# Altium schematic symbol library WE-PD4.SchLib: 97 symbols (part 2 of 2)
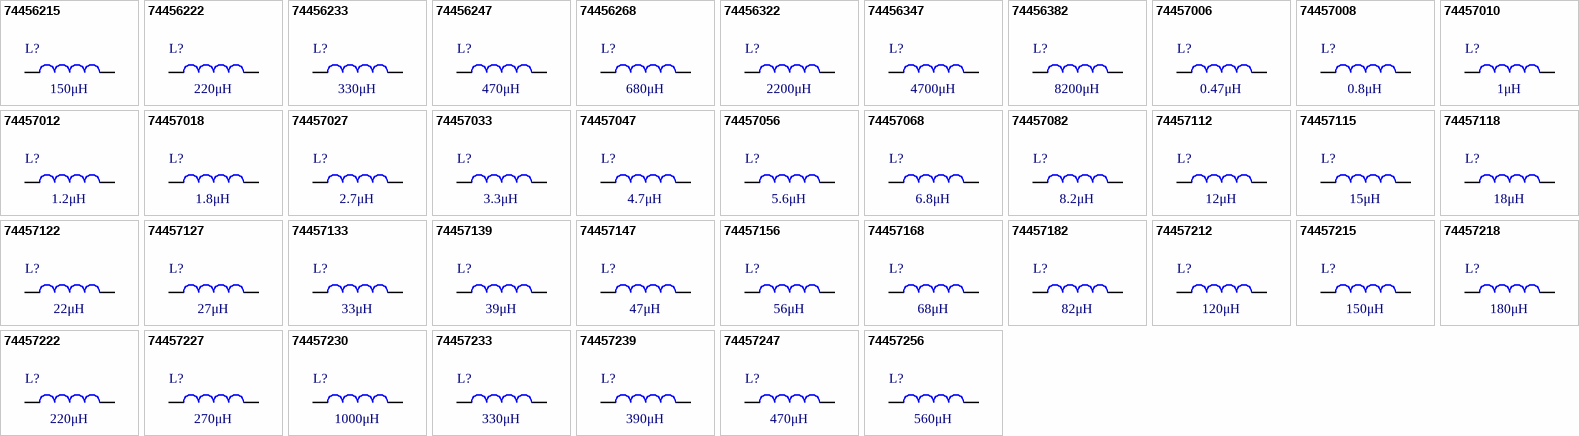
[diagram p3: symbols 74456215 to 74457256]

## 74457115
designator L?, comment 15μH
WE-PD4 Power Inductor, SMT, Type XL, 15μH, 5A, 0.035Ω; Manufacturer Part Number: 74457115; Manufacturer: Wurth Elektronik; Case/Size Code: Type XL; Saturation Current: 9A; Self Resonant Frequency: 15MHz; Category: Power Inductors; Match Code: WE-PD4; ComponentLink1Description: Website Link; ComponentLink1URL: https://www.we-online.com/redexpert/article/74457115?ad; ComponentLink2Description: Datasheet Link; ComponentLink2URL: https://www.we-online.com/redexpert/spec/74457115?ad; Mount: Surface Mount; Min Operating Temperature: -40°C; Max Operating Temperature: 125°C; Packaging: Tape and Reel; Length: 22mm; Width: 15mm; Height: 7mm; DC Resistance Max: 0.035Ω; Inductance: 15μH; Rated Current: 5A
footprint WE-PD4_Type XL
simulation model TypeXL_74457115_15u
pins: 1, 2

## 74457118
designator L?, comment 18μH
WE-PD4 Power Inductor, SMT, Type XL, 18μH, 4.6A, 0.04Ω; Manufacturer Part Number: 74457118; Manufacturer: Wurth Elektronik; Case/Size Code: Type XL; Saturation Current: 8A; Self Resonant Frequency: 14.5MHz; Category: Power Inductors; Match Code: WE-PD4; ComponentLink1Description: Website Link; ComponentLink1URL: https://www.we-online.com/redexpert/article/74457118?ad; ComponentLink2Description: Datasheet Link; ComponentLink2URL: https://www.we-online.com/redexpert/spec/74457118?ad; Mount: Surface Mount; Min Operating Temperature: -40°C; Max Operating Temperature: 125°C; Packaging: Tape and Reel; Length: 22mm; Width: 15mm; Height: 7mm; DC Resistance Max: 0.04Ω; Inductance: 18μH; Rated Current: 4.6A
footprint WE-PD4_Type XL
simulation model TypeXL_74457118_18u
pins: 1, 2

## 74457122
designator L?, comment 22μH
WE-PD4 Power Inductor, SMT, Type XL, 22μH, 4A, 0.047Ω; Manufacturer Part Number: 74457122; Manufacturer: Wurth Elektronik; Case/Size Code: Type XL; Saturation Current: 6.5A; Self Resonant Frequency: 14MHz; Category: Power Inductors; Match Code: WE-PD4; ComponentLink1Description: Website Link; ComponentLink1URL: https://www.we-online.com/redexpert/article/74457122?ad; ComponentLink2Description: Datasheet Link; ComponentLink2URL: https://www.we-online.com/redexpert/spec/74457122?ad; Mount: Surface Mount; Min Operating Temperature: -40°C; Max Operating Temperature: 125°C; Packaging: Tape and Reel; Length: 22mm; Width: 15mm; Height: 7mm; DC Resistance Max: 0.047Ω; Inductance: 22μH; Rated Current: 4A
footprint WE-PD4_Type XL
simulation model TypeXL_74457122_22u
pins: 1, 2

## 74457127
designator L?, comment 27μH
WE-PD4 Power Inductor, SMT, Type XL, 27μH, 3.8A, 0.052Ω; Manufacturer Part Number: 74457127; Manufacturer: Wurth Elektronik; Case/Size Code: Type XL; Saturation Current: 6A; Self Resonant Frequency: 12.5MHz; Category: Power Inductors; Match Code: WE-PD4; ComponentLink1Description: Website Link; ComponentLink1URL: https://www.we-online.com/redexpert/article/74457127?ad; ComponentLink2Description: Datasheet Link; ComponentLink2URL: https://www.we-online.com/redexpert/spec/74457127?ad; Mount: Surface Mount; Min Operating Temperature: -40°C; Max Operating Temperature: 125°C; Packaging: Tape and Reel; Length: 22mm; Width: 15mm; Height: 7mm; DC Resistance Max: 0.052Ω; Inductance: 27μH; Rated Current: 3.8A
footprint WE-PD4_Type XL
simulation model TypeXL_74457127_27u
pins: 1, 2

## 74457133
designator L?, comment 33μH
WE-PD4 Power Inductor, SMT, Type XL, 33μH, 3.4A, 0.07Ω; Manufacturer Part Number: 74457133; Manufacturer: Wurth Elektronik; Case/Size Code: Type XL; Saturation Current: 5.5A; Self Resonant Frequency: 11.5MHz; Category: Power Inductors; Match Code: WE-PD4; ComponentLink1Description: Website Link; ComponentLink1URL: https://www.we-online.com/redexpert/article/74457133?ad; ComponentLink2Description: Datasheet Link; ComponentLink2URL: https://www.we-online.com/redexpert/spec/74457133?ad; Mount: Surface Mount; Min Operating Temperature: -40°C; Max Operating Temperature: 125°C; Packaging: Tape and Reel; Length: 22mm; Width: 15mm; Height: 7mm; DC Resistance Max: 0.07Ω; Inductance: 33μH; Rated Current: 3.4A
footprint WE-PD4_Type XL
simulation model TypeXL_74457133_33u
pins: 1, 2

## 74457139
designator L?, comment 39μH
WE-PD4 Power Inductor, SMT, Type XL, 39μH, 3.2A, 0.078Ω; Manufacturer Part Number: 74457139; Manufacturer: Wurth Elektronik; Case/Size Code: Type XL; Saturation Current: 5.2A; Self Resonant Frequency: 10.5MHz; Category: Power Inductors; Match Code: WE-PD4; ComponentLink1Description: Website Link; ComponentLink1URL: https://www.we-online.com/redexpert/article/74457139?ad; ComponentLink2Description: Datasheet Link; ComponentLink2URL: https://www.we-online.com/redexpert/spec/74457139?ad; Mount: Surface Mount; Min Operating Temperature: -40°C; Max Operating Temperature: 125°C; Packaging: Tape and Reel; Length: 22mm; Width: 15mm; Height: 7mm; DC Resistance Max: 0.078Ω; Inductance: 39μH; Rated Current: 3.2A
footprint WE-PD4_Type XL
simulation model TypeXL_74457139_39u
pins: 1, 2

## 74457147
designator L?, comment 47μH
WE-PD4 Power Inductor, SMT, Type XL, 47μH, 2.8A, 0.109Ω; Manufacturer Part Number: 74457147; Manufacturer: Wurth Elektronik; Case/Size Code: Type XL; Saturation Current: 5A; Self Resonant Frequency: 9.2MHz; Category: Power Inductors; Match Code: WE-PD4; ComponentLink1Description: Website Link; ComponentLink1URL: https://www.we-online.com/redexpert/article/74457147?ad; ComponentLink2Description: Datasheet Link; ComponentLink2URL: https://www.we-online.com/redexpert/spec/74457147?ad; Mount: Surface Mount; Min Operating Temperature: -40°C; Max Operating Temperature: 125°C; Packaging: Tape and Reel; Length: 22mm; Width: 15mm; Height: 7mm; DC Resistance Max: 0.109Ω; Inductance: 47μH; Rated Current: 2.8A
footprint WE-PD4_Type XL
simulation model TypeXL_74457147_47u
pins: 1, 2

## 74457156
designator L?, comment 56μH
WE-PD4 Power Inductor, SMT, Type XL, 56μH, 2.6A, 0.116Ω; Manufacturer Part Number: 74457156; Manufacturer: Wurth Elektronik; Case/Size Code: Type XL; Saturation Current: 4.5A; Self Resonant Frequency: 8.8MHz; Category: Power Inductors; Match Code: WE-PD4; ComponentLink1Description: Website Link; ComponentLink1URL: https://www.we-online.com/redexpert/article/74457156?ad; ComponentLink2Description: Datasheet Link; ComponentLink2URL: https://www.we-online.com/redexpert/spec/74457156?ad; Mount: Surface Mount; Min Operating Temperature: -40°C; Max Operating Temperature: 125°C; Packaging: Tape and Reel; Length: 22mm; Width: 15mm; Height: 7mm; DC Resistance Max: 0.116Ω; Inductance: 56μH; Rated Current: 2.6A
footprint WE-PD4_Type XL
simulation model TypeXL_74457156_56u
pins: 1, 2

## 74457168
designator L?, comment 68μH
WE-PD4 Power Inductor, SMT, Type XL, 68μH, 2.4A, 0.134Ω; Manufacturer Part Number: 74457168; Manufacturer: Wurth Elektronik; Case/Size Code: Type XL; Saturation Current: 4A; Self Resonant Frequency: 7.6MHz; Category: Power Inductors; Match Code: WE-PD4; ComponentLink1Description: Website Link; ComponentLink1URL: https://www.we-online.com/redexpert/article/74457168?ad; ComponentLink2Description: Datasheet Link; ComponentLink2URL: https://www.we-online.com/redexpert/spec/74457168?ad; Mount: Surface Mount; Min Operating Temperature: -40°C; Max Operating Temperature: 125°C; Packaging: Tape and Reel; Length: 22mm; Width: 15mm; Height: 7mm; DC Resistance Max: 0.134Ω; Inductance: 68μH; Rated Current: 2.4A
footprint WE-PD4_Type XL
simulation model TypeXL_74457168_68u
pins: 1, 2

## 74457182
designator L?, comment 82μH
WE-PD4 Power Inductor, SMT, Type XL, 82μH, 2.2A, 0.173Ω; Manufacturer Part Number: 74457182; Manufacturer: Wurth Elektronik; Case/Size Code: Type XL; Saturation Current: 3.5A; Self Resonant Frequency: 7.2MHz; Category: Power Inductors; Match Code: WE-PD4; ComponentLink1Description: Website Link; ComponentLink1URL: https://www.we-online.com/redexpert/article/74457182?ad; ComponentLink2Description: Datasheet Link; ComponentLink2URL: https://www.we-online.com/redexpert/spec/74457182?ad; Mount: Surface Mount; Min Operating Temperature: -40°C; Max Operating Temperature: 125°C; Packaging: Tape and Reel; Length: 22mm; Width: 15mm; Height: 7mm; DC Resistance Max: 0.173Ω; Inductance: 82μH; Rated Current: 2.2A
footprint WE-PD4_Type XL
simulation model TypeXL_74457182_82u
pins: 1, 2

## 74457212
designator L?, comment 120μH
WE-PD4 Power Inductor, SMT, Type XL, 120μH, 1.6A, 0.235Ω; Manufacturer Part Number: 74457212; Manufacturer: Wurth Elektronik; Case/Size Code: Type XL; Saturation Current: 3A; Self Resonant Frequency: 4.3MHz; Category: Power Inductors; Match Code: WE-PD4; ComponentLink1Description: Website Link; ComponentLink1URL: https://www.we-online.com/redexpert/article/74457212?ad; ComponentLink2Description: Datasheet Link; ComponentLink2URL: https://www.we-online.com/redexpert/spec/74457212?ad; Mount: Surface Mount; Min Operating Temperature: -40°C; Max Operating Temperature: 125°C; Packaging: Tape and Reel; Length: 22mm; Width: 15mm; Height: 7mm; DC Resistance Max: 0.235Ω; Inductance: 120μH; Rated Current: 1.6A
footprint WE-PD4_Type XL
simulation model TypeXL_74457212_120u
pins: 1, 2

## 74457215
designator L?, comment 150μH
WE-PD4 Power Inductor, SMT, Type XL, 150μH, 1.5A, 0.268Ω; Manufacturer Part Number: 74457215; Manufacturer: Wurth Elektronik; Case/Size Code: Type XL; Saturation Current: 2.6A; Self Resonant Frequency: 4.1MHz; Category: Power Inductors; Match Code: WE-PD4; ComponentLink1Description: Website Link; ComponentLink1URL: https://www.we-online.com/redexpert/article/74457215?ad; ComponentLink2Description: Datasheet Link; ComponentLink2URL: https://www.we-online.com/redexpert/spec/74457215?ad; Mount: Surface Mount; Min Operating Temperature: -40°C; Max Operating Temperature: 125°C; Packaging: Tape and Reel; Length: 22mm; Width: 15mm; Height: 7mm; DC Resistance Max: 0.268Ω; Inductance: 150μH; Rated Current: 1.5A
footprint WE-PD4_Type XL
simulation model TypeXL_74457215_150u
pins: 1, 2

## 74457218
designator L?, comment 180μH
WE-PD4 Power Inductor, SMT, Type XL, 180μH, 1.3A, 0.307Ω; Manufacturer Part Number: 74457218; Manufacturer: Wurth Elektronik; Case/Size Code: Type XL; Saturation Current: 2.5A; Self Resonant Frequency: 3.5MHz; Category: Power Inductors; Match Code: WE-PD4; ComponentLink1Description: Website Link; ComponentLink1URL: https://www.we-online.com/redexpert/article/74457218?ad; ComponentLink2Description: Datasheet Link; ComponentLink2URL: https://www.we-online.com/redexpert/spec/74457218?ad; Mount: Surface Mount; Min Operating Temperature: -40°C; Max Operating Temperature: 125°C; Packaging: Tape and Reel; Length: 22mm; Width: 15mm; Height: 7mm; DC Resistance Max: 0.307Ω; Inductance: 180μH; Rated Current: 1.3A
footprint WE-PD4_Type XL
simulation model TypeXL_74457218_180u
pins: 1, 2

## 74457222
designator L?, comment 220μH
WE-PD4 Power Inductor, SMT, Type XL, 220μH, 1.2A, 0.388Ω; Manufacturer Part Number: 74457222; Manufacturer: Wurth Elektronik; Case/Size Code: Type XL; Saturation Current: 2.4A; Self Resonant Frequency: 3.4MHz; Category: Power Inductors; Match Code: WE-PD4; ComponentLink1Description: Website Link; ComponentLink1URL: https://www.we-online.com/redexpert/article/74457222?ad; ComponentLink2Description: Datasheet Link; ComponentLink2URL: https://www.we-online.com/redexpert/spec/74457222?ad; Mount: Surface Mount; Min Operating Temperature: -40°C; Max Operating Temperature: 125°C; Packaging: Tape and Reel; Length: 22mm; Width: 15mm; Height: 7mm; DC Resistance Max: 0.388Ω; Inductance: 220μH; Rated Current: 1.2A
footprint WE-PD4_Type XL
simulation model TypeXL_74457222_220u
pins: 1, 2

## 74457227
designator L?, comment 270μH
WE-PD4 Power Inductor, SMT, Type XL, 270μH, 1.1A, 0.479Ω; Manufacturer Part Number: 74457227; Manufacturer: Wurth Elektronik; Case/Size Code: Type XL; Saturation Current: 2.2A; Self Resonant Frequency: 2.8MHz; Category: Power Inductors; Match Code: WE-PD4; ComponentLink1Description: Website Link; ComponentLink1URL: https://www.we-online.com/redexpert/article/74457227?ad; ComponentLink2Description: Datasheet Link; ComponentLink2URL: https://www.we-online.com/redexpert/spec/74457227?ad; Mount: Surface Mount; Min Operating Temperature: -40°C; Max Operating Temperature: 125°C; Packaging: Tape and Reel; Length: 22mm; Width: 15mm; Height: 7mm; DC Resistance Max: 0.479Ω; Inductance: 270μH; Rated Current: 1.1A
footprint WE-PD4_Type XL
simulation model TypeXL_74457227_270u
pins: 1, 2

## 74457230
designator L?, comment 1000μH
WE-PD4 Power Inductor, SMT, Type XL, 1000μH, 0.56A, 1.8Ω; Manufacturer Part Number: 74457230; Manufacturer: Wurth Elektronik; Case/Size Code: Type XL; Saturation Current: 1A; Self Resonant Frequency: 1.4MHz; Category: Power Inductors; Match Code: WE-PD4; ComponentLink1Description: Website Link; ComponentLink1URL: https://www.we-online.com/redexpert/article/74457230?ad; ComponentLink2Description: Datasheet Link; ComponentLink2URL: https://www.we-online.com/redexpert/spec/74457230?ad; Mount: Surface Mount; Min Operating Temperature: -40°C; Max Operating Temperature: 125°C; Packaging: Tape and Reel; Length: 22mm; Width: 15mm; Height: 7mm; DC Resistance Max: 1.8Ω; Inductance: 1000μH; Rated Current: 0.56A
footprint WE-PD4_Type XL
simulation model TypeXL_74457230_1000u
pins: 1, 2

## 74457233
designator L?, comment 330μH
WE-PD4 Power Inductor, SMT, Type XL, 330μH, 1A, 0.564Ω; Manufacturer Part Number: 74457233; Manufacturer: Wurth Elektronik; Case/Size Code: Type XL; Saturation Current: 1.9A; Self Resonant Frequency: 2.6MHz; Category: Power Inductors; Match Code: WE-PD4; ComponentLink1Description: Website Link; ComponentLink1URL: https://www.we-online.com/redexpert/article/74457233?ad; ComponentLink2Description: Datasheet Link; ComponentLink2URL: https://www.we-online.com/redexpert/spec/74457233?ad; Mount: Surface Mount; Min Operating Temperature: -40°C; Max Operating Temperature: 125°C; Packaging: Tape and Reel; Length: 22mm; Width: 15mm; Height: 7mm; DC Resistance Max: 0.564Ω; Inductance: 330μH; Rated Current: 1A
footprint WE-PD4_Type XL
simulation model TypeXL_74457233_330u
pins: 1, 2

## 74457239
designator L?, comment 390μH
WE-PD4 Power Inductor, SMT, Type XL, 390μH, 0.9A, 0.67Ω; Manufacturer Part Number: 74457239; Manufacturer: Wurth Elektronik; Case/Size Code: Type XL; Saturation Current: 1.7A; Self Resonant Frequency: 2.4MHz; Category: Power Inductors; Match Code: WE-PD4; ComponentLink1Description: Website Link; ComponentLink1URL: https://www.we-online.com/redexpert/article/74457239?ad; ComponentLink2Description: Datasheet Link; ComponentLink2URL: https://www.we-online.com/redexpert/spec/74457239?ad; Mount: Surface Mount; Min Operating Temperature: -40°C; Max Operating Temperature: 125°C; Packaging: Tape and Reel; Length: 22mm; Width: 15mm; Height: 7mm; DC Resistance Max: 0.67Ω; Inductance: 390μH; Rated Current: 0.9A
footprint WE-PD4_Type XL
simulation model TypeXL_74457239_390u
pins: 1, 2

## 74457247
designator L?, comment 470μH
WE-PD4 Power Inductor, SMT, Type XL, 470μH, 0.82A, 0.809Ω; Manufacturer Part Number: 74457247; Manufacturer: Wurth Elektronik; Case/Size Code: Type XL; Saturation Current: 1.4A; Self Resonant Frequency: 2.1MHz; Category: Power Inductors; Match Code: WE-PD4; ComponentLink1Description: Website Link; ComponentLink1URL: https://www.we-online.com/redexpert/article/74457247?ad; ComponentLink2Description: Datasheet Link; ComponentLink2URL: https://www.we-online.com/redexpert/spec/74457247?ad; Mount: Surface Mount; Min Operating Temperature: -40°C; Max Operating Temperature: 125°C; Packaging: Tape and Reel; Length: 22mm; Width: 15mm; Height: 7mm; DC Resistance Max: 0.809Ω; Inductance: 470μH; Rated Current: 0.82A
footprint WE-PD4_Type XL
simulation model TypeXL_74457247_470u
pins: 1, 2

## 74457256
designator L?, comment 560μH
WE-PD4 Power Inductor, SMT, Type XL, 560μH, 0.78A, 1.026Ω; Manufacturer Part Number: 74457256; Manufacturer: Wurth Elektronik; Case/Size Code: Type XL; Saturation Current: 1.3A; Self Resonant Frequency: 1.9MHz; Category: Power Inductors; Match Code: WE-PD4; ComponentLink1Description: Website Link; ComponentLink1URL: https://www.we-online.com/redexpert/article/74457256?ad; ComponentLink2Description: Datasheet Link; ComponentLink2URL: https://www.we-online.com/redexpert/spec/74457256?ad; Mount: Surface Mount; Min Operating Temperature: -40°C; Max Operating Temperature: 125°C; Packaging: Tape and Reel; Length: 22mm; Width: 15mm; Height: 7mm; DC Resistance Max: 1.026Ω; Inductance: 560μH; Rated Current: 0.78A
footprint WE-PD4_Type XL
simulation model TypeXL_74457256_560u
pins: 1, 2

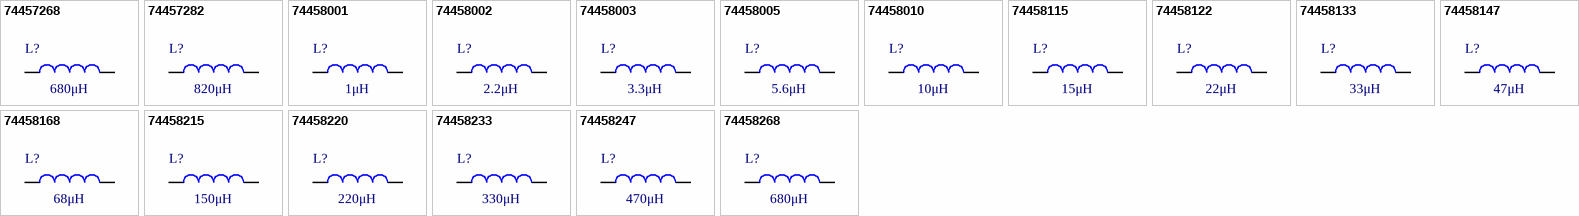
[diagram p2: symbols 74457268 to 74458268]

## 74457268
designator L?, comment 680μH
WE-PD4 Power Inductor, SMT, Type XL, 680μH, 0.72A, 1.2Ω; Manufacturer Part Number: 74457268; Manufacturer: Wurth Elektronik; Case/Size Code: Type XL; Saturation Current: 1.2A; Self Resonant Frequency: 1.8MHz; Category: Power Inductors; Match Code: WE-PD4; ComponentLink1Description: Website Link; ComponentLink1URL: https://www.we-online.com/redexpert/article/74457268?ad; ComponentLink2Description: Datasheet Link; ComponentLink2URL: https://www.we-online.com/redexpert/spec/74457268?ad; Mount: Surface Mount; Min Operating Temperature: -40°C; Max Operating Temperature: 125°C; Packaging: Tape and Reel; Length: 22mm; Width: 15mm; Height: 7mm; DC Resistance Max: 1.2Ω; Inductance: 680μH; Rated Current: 0.72A
footprint WE-PD4_Type XL
simulation model TypeXL_74457268_680u
pins: 1, 2

## 74457282
designator L?, comment 820μH
WE-PD4 Power Inductor, SMT, Type XL, 820μH, 0.64A, 1.4Ω; Manufacturer Part Number: 74457282; Manufacturer: Wurth Elektronik; Case/Size Code: Type XL; Saturation Current: 1.1A; Self Resonant Frequency: 1.7MHz; Category: Power Inductors; Match Code: WE-PD4; ComponentLink1Description: Website Link; ComponentLink1URL: https://www.we-online.com/redexpert/article/74457282?ad; ComponentLink2Description: Datasheet Link; ComponentLink2URL: https://www.we-online.com/redexpert/spec/74457282?ad; Mount: Surface Mount; Min Operating Temperature: -40°C; Max Operating Temperature: 125°C; Packaging: Tape and Reel; Length: 22mm; Width: 15mm; Height: 7mm; DC Resistance Max: 1.4Ω; Inductance: 820μH; Rated Current: 0.64A
footprint WE-PD4_Type XL
simulation model TypeXL_74457282_820u
pins: 1, 2

## 74458001
designator L?, comment 1μH
WE-PD4 Power Inductor, SMT, Type X, 1μH, 8.6A, 0.009Ω; Manufacturer Part Number: 74458001; Manufacturer: Wurth Elektronik; Case/Size Code: Type X; Saturation Current: 25A; Self Resonant Frequency: 70MHz; Category: Power Inductors; Match Code: WE-PD4; ComponentLink1Description: Website Link; ComponentLink1URL: https://www.we-online.com/redexpert/article/74458001?ad; ComponentLink2Description: Datasheet Link; ComponentLink2URL: https://www.we-online.com/redexpert/spec/74458001?ad; Mount: Surface Mount; Min Operating Temperature: -40°C; Max Operating Temperature: 125°C; Packaging: Tape and Reel; Length: 18.54mm; Width: 15.24mm; Height: 7.11mm; DC Resistance Max: 0.009Ω; Inductance: 1μH; Rated Current: 8.6A
footprint WE-PD4_Type X
simulation model TypeX_74458001_1u
pins: 1, 2

## 74458002
designator L?, comment 2.2μH
WE-PD4 Power Inductor, SMT, Type X, 2.2μH, 7.1A, 0.014Ω; Manufacturer Part Number: 74458002; Manufacturer: Wurth Elektronik; Case/Size Code: Type X; Saturation Current: 20.3A; Self Resonant Frequency: 42MHz; Category: Power Inductors; Match Code: WE-PD4; ComponentLink1Description: Website Link; ComponentLink1URL: https://www.we-online.com/redexpert/article/74458002?ad; ComponentLink2Description: Datasheet Link; ComponentLink2URL: https://www.we-online.com/redexpert/spec/74458002?ad; Mount: Surface Mount; Min Operating Temperature: -40°C; Max Operating Temperature: 125°C; Packaging: Tape and Reel; Length: 18.54mm; Width: 15.24mm; Height: 7.11mm; DC Resistance Max: 0.014Ω; Inductance: 2.2μH; Rated Current: 7.1A
footprint WE-PD4_Type X
simulation model TypeX_74458002_2.2u
pins: 1, 2

## 74458003
designator L?, comment 3.3μH
WE-PD4 Power Inductor, SMT, Type X, 3.3μH, 6.2A, 0.018Ω; Manufacturer Part Number: 74458003; Manufacturer: Wurth Elektronik; Case/Size Code: Type X; Saturation Current: 15.8A; Self Resonant Frequency: 34MHz; Category: Power Inductors; Match Code: WE-PD4; ComponentLink1Description: Website Link; ComponentLink1URL: https://www.we-online.com/redexpert/article/74458003?ad; ComponentLink2Description: Datasheet Link; ComponentLink2URL: https://www.we-online.com/redexpert/spec/74458003?ad; Mount: Surface Mount; Min Operating Temperature: -40°C; Max Operating Temperature: 125°C; Packaging: Tape and Reel; Length: 18.54mm; Width: 15.24mm; Height: 7.11mm; DC Resistance Max: 0.018Ω; Inductance: 3.3μH; Rated Current: 6.2A
footprint WE-PD4_Type X
simulation model TypeX_74458003_3.3u
pins: 1, 2

## 74458005
designator L?, comment 5.6μH
WE-PD4 Power Inductor, SMT, Type X, 5.6μH, 5.3A, 0.02Ω; Manufacturer Part Number: 74458005; Manufacturer: Wurth Elektronik; Case/Size Code: Type X; Saturation Current: 13.1A; Self Resonant Frequency: 26MHz; Category: Power Inductors; Match Code: WE-PD4; ComponentLink1Description: Website Link; ComponentLink1URL: https://www.we-online.com/redexpert/article/74458005?ad; ComponentLink2Description: Datasheet Link; ComponentLink2URL: https://www.we-online.com/redexpert/spec/74458005?ad; Mount: Surface Mount; Min Operating Temperature: -40°C; Max Operating Temperature: 125°C; Packaging: Tape and Reel; Length: 18.54mm; Width: 15.24mm; Height: 7.11mm; DC Resistance Max: 0.02Ω; Inductance: 5.6μH; Rated Current: 5.3A
footprint WE-PD4_Type X
simulation model TypeX_74458005_5.6u
pins: 1, 2

## 74458010
designator L?, comment 10μH
WE-PD4 Power Inductor, SMT, Type X, 10μH, 4.3A, 0.031Ω; Manufacturer Part Number: 74458010; Manufacturer: Wurth Elektronik; Case/Size Code: Type X; Saturation Current: 10A; Self Resonant Frequency: 20MHz; Category: Power Inductors; Match Code: WE-PD4; ComponentLink1Description: Website Link; ComponentLink1URL: https://www.we-online.com/redexpert/article/74458010?ad; ComponentLink2Description: Datasheet Link; ComponentLink2URL: https://www.we-online.com/redexpert/spec/74458010?ad; Mount: Surface Mount; Min Operating Temperature: -40°C; Max Operating Temperature: 125°C; Packaging: Tape and Reel; Length: 18.54mm; Width: 15.24mm; Height: 7.11mm; DC Resistance Max: 0.031Ω; Inductance: 10μH; Rated Current: 4.3A
footprint WE-PD4_Type X
simulation model TypeX_74458010_10u
pins: 1, 2

## 74458115
designator L?, comment 15μH
WE-PD4 Power Inductor, SMT, Type X, 15μH, 4A, 0.036Ω; Manufacturer Part Number: 74458115; Manufacturer: Wurth Elektronik; Case/Size Code: Type X; Saturation Current: 8A; Self Resonant Frequency: 15MHz; Category: Power Inductors; Match Code: WE-PD4; ComponentLink1Description: Website Link; ComponentLink1URL: https://www.we-online.com/redexpert/article/74458115?ad; ComponentLink2Description: Datasheet Link; ComponentLink2URL: https://www.we-online.com/redexpert/spec/74458115?ad; Mount: Surface Mount; Min Operating Temperature: -40°C; Max Operating Temperature: 125°C; Packaging: Tape and Reel; Length: 18.54mm; Width: 15.24mm; Height: 7.11mm; DC Resistance Max: 0.036Ω; Inductance: 15μH; Rated Current: 4A
footprint WE-PD4_Type X
simulation model TypeX_74458115_15u
pins: 1, 2

## 74458122
designator L?, comment 22μH
WE-PD4 Power Inductor, SMT, Type X, 22μH, 3.5A, 0.047Ω; Manufacturer Part Number: 74458122; Manufacturer: Wurth Elektronik; Case/Size Code: Type X; Saturation Current: 7A; Self Resonant Frequency: 13MHz; Category: Power Inductors; Match Code: WE-PD4; ComponentLink1Description: Website Link; ComponentLink1URL: https://www.we-online.com/redexpert/article/74458122?ad; ComponentLink2Description: Datasheet Link; ComponentLink2URL: https://www.we-online.com/redexpert/spec/74458122?ad; Mount: Surface Mount; Min Operating Temperature: -40°C; Max Operating Temperature: 125°C; Packaging: Tape and Reel; Length: 18.54mm; Width: 15.24mm; Height: 7.11mm; DC Resistance Max: 0.047Ω; Inductance: 22μH; Rated Current: 3.5A
footprint WE-PD4_Type X
simulation model TypeX_74458122_22u
pins: 1, 2

## 74458133
designator L?, comment 33μH
WE-PD4 Power Inductor, SMT, Type X, 33μH, 3A, 0.066Ω; Manufacturer Part Number: 74458133; Manufacturer: Wurth Elektronik; Case/Size Code: Type X; Saturation Current: 5.5A; Self Resonant Frequency: 10MHz; Category: Power Inductors; Match Code: WE-PD4; ComponentLink1Description: Website Link; ComponentLink1URL: https://www.we-online.com/redexpert/article/74458133?ad; ComponentLink2Description: Datasheet Link; ComponentLink2URL: https://www.we-online.com/redexpert/spec/74458133?ad; Mount: Surface Mount; Min Operating Temperature: -40°C; Max Operating Temperature: 125°C; Packaging: Tape and Reel; Length: 18.54mm; Width: 15.24mm; Height: 7.11mm; DC Resistance Max: 0.066Ω; Inductance: 33μH; Rated Current: 3A
footprint WE-PD4_Type X
simulation model TypeX_74458133_33u
pins: 1, 2

## 74458147
designator L?, comment 47μH
WE-PD4 Power Inductor, SMT, Type X, 47μH, 2.6A, 0.086Ω; Manufacturer Part Number: 74458147; Manufacturer: Wurth Elektronik; Case/Size Code: Type X; Saturation Current: 4.5A; Self Resonant Frequency: 8.4MHz; Category: Power Inductors; Match Code: WE-PD4; ComponentLink1Description: Website Link; ComponentLink1URL: https://www.we-online.com/redexpert/article/74458147?ad; ComponentLink2Description: Datasheet Link; ComponentLink2URL: https://www.we-online.com/redexpert/spec/74458147?ad; Mount: Surface Mount; Min Operating Temperature: -40°C; Max Operating Temperature: 125°C; Packaging: Tape and Reel; Length: 18.54mm; Width: 15.24mm; Height: 7.11mm; DC Resistance Max: 0.086Ω; Inductance: 47μH; Rated Current: 2.6A
footprint WE-PD4_Type X
simulation model TypeX_74458147_47u
pins: 1, 2

## 74458168
designator L?, comment 68μH
WE-PD4 Power Inductor, SMT, Type X, 68μH, 2.3A, 0.13Ω; Manufacturer Part Number: 74458168; Manufacturer: Wurth Elektronik; Case/Size Code: Type X; Saturation Current: 3.6A; Self Resonant Frequency: 7.2MHz; Category: Power Inductors; Match Code: WE-PD4; ComponentLink1Description: Website Link; ComponentLink1URL: https://www.we-online.com/redexpert/article/74458168?ad; ComponentLink2Description: Datasheet Link; ComponentLink2URL: https://www.we-online.com/redexpert/spec/74458168?ad; Mount: Surface Mount; Min Operating Temperature: -40°C; Max Operating Temperature: 125°C; Packaging: Tape and Reel; Length: 18.54mm; Width: 15.24mm; Height: 7.11mm; DC Resistance Max: 0.13Ω; Inductance: 68μH; Rated Current: 2.3A
footprint WE-PD4_Type X
simulation model TypeX_74458168_68u
pins: 1, 2

## 74458215
designator L?, comment 150μH
WE-PD4 Power Inductor, SMT, Type X, 150μH, 1.5A, 0.25Ω; Manufacturer Part Number: 74458215; Manufacturer: Wurth Elektronik; Case/Size Code: Type X; Saturation Current: 2.7A; Self Resonant Frequency: 4.6MHz; Category: Power Inductors; Match Code: WE-PD4; ComponentLink1Description: Website Link; ComponentLink1URL: https://www.we-online.com/redexpert/article/74458215?ad; ComponentLink2Description: Datasheet Link; ComponentLink2URL: https://www.we-online.com/redexpert/spec/74458215?ad; Mount: Surface Mount; Min Operating Temperature: -40°C; Max Operating Temperature: 125°C; Packaging: Tape and Reel; Length: 18.54mm; Width: 15.24mm; Height: 7.11mm; DC Resistance Max: 0.25Ω; Inductance: 150μH; Rated Current: 1.5A
footprint WE-PD4_Type X
simulation model TypeX_74458215_150u
pins: 1, 2

## 74458220
designator L?, comment 220μH
WE-PD4 Power Inductor, SMT, Type X, 220μH, 1.2A, 0.38Ω; Manufacturer Part Number: 74458220; Manufacturer: Wurth Elektronik; Case/Size Code: Type X; Saturation Current: 2.4A; Self Resonant Frequency: 3.5MHz; Category: Power Inductors; Match Code: WE-PD4; ComponentLink1Description: Website Link; ComponentLink1URL: https://www.we-online.com/redexpert/article/74458220?ad; ComponentLink2Description: Datasheet Link; ComponentLink2URL: https://www.we-online.com/redexpert/spec/74458220?ad; Mount: Surface Mount; Min Operating Temperature: -40°C; Max Operating Temperature: 125°C; Packaging: Tape and Reel; Length: 18.54mm; Width: 15.24mm; Height: 7.11mm; DC Resistance Max: 0.38Ω; Inductance: 220μH; Rated Current: 1.2A
footprint WE-PD4_Type X
simulation model TypeX_74458220_220u
pins: 1, 2

## 74458233
designator L?, comment 330μH
WE-PD4 Power Inductor, SMT, Type X, 330μH, 1A, 0.56Ω; Manufacturer Part Number: 74458233; Manufacturer: Wurth Elektronik; Case/Size Code: Type X; Saturation Current: 1.9A; Self Resonant Frequency: 2.8MHz; Category: Power Inductors; Match Code: WE-PD4; ComponentLink1Description: Website Link; ComponentLink1URL: https://www.we-online.com/redexpert/article/74458233?ad; ComponentLink2Description: Datasheet Link; ComponentLink2URL: https://www.we-online.com/redexpert/spec/74458233?ad; Mount: Surface Mount; Min Operating Temperature: -40°C; Max Operating Temperature: 125°C; Packaging: Tape and Reel; Length: 18.54mm; Width: 15.24mm; Height: 7.11mm; DC Resistance Max: 0.56Ω; Inductance: 330μH; Rated Current: 1A
footprint WE-PD4_Type X
simulation model TypeX_74458233_330u
pins: 1, 2

## 74458247
designator L?, comment 470μH
WE-PD4 Power Inductor, SMT, Type X, 470μH, 0.82A, 0.85Ω; Manufacturer Part Number: 74458247; Manufacturer: Wurth Elektronik; Case/Size Code: Type X; Saturation Current: 1.6A; Self Resonant Frequency: 2.3MHz; Category: Power Inductors; Match Code: WE-PD4; ComponentLink1Description: Website Link; ComponentLink1URL: https://www.we-online.com/redexpert/article/74458247?ad; ComponentLink2Description: Datasheet Link; ComponentLink2URL: https://www.we-online.com/redexpert/spec/74458247?ad; Mount: Surface Mount; Min Operating Temperature: -40°C; Max Operating Temperature: 125°C; Packaging: Tape and Reel; Length: 18.54mm; Width: 15.24mm; Height: 7.11mm; DC Resistance Max: 0.85Ω; Inductance: 470μH; Rated Current: 0.82A
footprint WE-PD4_Type X
simulation model TypeX_74458247_470u
pins: 1, 2

## 74458268
designator L?, comment 680μH
WE-PD4 Power Inductor, SMT, Type X, 680μH, 0.72A, 1.1Ω; Manufacturer Part Number: 74458268; Manufacturer: Wurth Elektronik; Case/Size Code: Type X; Saturation Current: 1.3A; Self Resonant Frequency: 1.8MHz; Category: Power Inductors; Match Code: WE-PD4; ComponentLink1Description: Website Link; ComponentLink1URL: https://www.we-online.com/redexpert/article/74458268?ad; ComponentLink2Description: Datasheet Link; ComponentLink2URL: https://www.we-online.com/redexpert/spec/74458268?ad; Mount: Surface Mount; Min Operating Temperature: -40°C; Max Operating Temperature: 125°C; Packaging: Tape and Reel; Length: 18.54mm; Width: 15.24mm; Height: 7.11mm; DC Resistance Max: 1.1Ω; Inductance: 680μH; Rated Current: 0.72A
footprint WE-PD4_Type X
simulation model TypeX_74458268_680u
pins: 1, 2